# Altium schematic symbol library TouchSensorIC.SchLib: 2 symbols
Pins are listed as number, name and electrical type; pins without a type are passive.

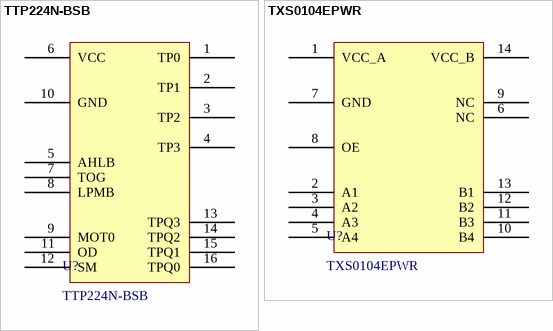
[diagram p0: symbols TTP224N-BSB to TXS0104EPWR]

## TTP224N-BSB
designator U?
4 KEY TOUCH PAD DETECTOR IC; Manufacturer: TONTEK; Active Read Current - Max: Active; Supply Voltage - Max: 5.5 V; Supply Voltage - Min: 2.7 V; Supplier 1: Mouser; Supplier 1 Part Number: N/A; Supplier 1 URL: N/A; Supplier 2: Digi-Key; Supplier 2 Part Number: N/A; Supplier 2 URL: N/A; Supplier 3: thegioiic; Supplier 3 Part Number: TTP224N-BSB; Supplier 3 URL: https://www.thegioiic.com/ttp224n-bsb; Value: TTP224N-BSB; Manufacturer Part Number: TTP224N-BSB; Mount: SMD/SMT; Operating Temperature Max: + 85 C; Operating Temperature Min: - 40 C; Packaging: Tape and Reel; ComponentLink1Description: Datasheet; ComponentLink1URL: N/A
footprint TouchSensorIC_16Pin (SOP, 16-Leads, Body 4.90x3.90mm, Pitch 0.64mm, IPC Medium Density)
pins: 1 TP0, 2 TP1, 3 TP2, 4 TP3, 5 AHLB, 6 VCC, 7 TOG, 8 LPMB, 9 MOT0, 10 GND, 11 OD, 12 SM, 13 TPQ3, 14 TPQ2, 15 TPQ1, 16 TPQ0

## TXS0104EPWR
designator U?
Translation - Voltage Levels 4B Bidrctnl Vltg Lvl Trnsltr Opn Dran App; Manufacturer: Texas Instruments; Data Rate: 50 Mb/s; High Level Output Current: 24 mA; Propagation Delay Time: 260 ns; Supply Voltage - Max: 5.5 V; Supply Voltage - Min: 1.65 V; Active Read Current - Max: Active; Low Level Output Current: 24 mA; Manufacturer Part Number: TXS0104EPWR; Mount: SMD/SMT; Operating Temperature Max: + 85 C; Operating Temperature Min: - 40 C; Package / Case: TSSOP-14; Packaging: Tape and Reel; Supplier 1: Mouser; Supplier 1 Part Number: 595-TXS0104EPWR; Supplier 1 URL: https://www.mouser.vn/ProductDetail/Texas-Instruments/TXS0104EPWR?qs=7kv20MEVUlglsv2MH6ZndA%3D%3D; Supplier 2: Digi-Key; Supplier 2 Part Number: N/A; Supplier 2 URL: N/A; Supplier 3: thegioiic; Supplier 3 Part Number: N/A; Supplier 3 URL: N/A; Value: TXS0104EPWR; ComponentLink1Description: Datasheet; ComponentLink1URL: https://www.ti.com/general/docs/suppproductinfo.tsp?distId=26&gotoUrl=https://www.ti.com/lit/gpn/txs0104e
footprint TXS0104EPWR (Footprint not found)
pins: 1 VCC_A, 2 A1, 3 A2, 4 A3, 5 A4, 6 NC, 7 GND, 8 OE, 9 NC, 10 B4, 11 B3, 12 B2, 13 B1, 14 VCC_B